# Altium schematic symbol library IC-MicroChip.SchLib: 1 symbol
Pins are listed as number, name and electrical type; pins without a type are passive.

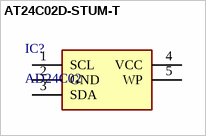
[diagram p0: symbol AT24C02D-STUM-T]

## AT24C02D-STUM-T
designator IC?, comment AD24C02
EEPROM 芯片 / 接口类型 I2C / 存储容量 2Kbit; Manufacturer_Name: IDCHIP(英锐芯); Manufacturer_Name_1: Microchip; Manufacturer_Part_Number_1: AT24C02D-STUM-T; Manufacturer_Part_Number: AD24C02; LCSC: C5125083Microchip
footprint SOT23-5 (SOT23, 5-Leads, Body 2.90x2.80mm, Pitch 0.95mm, IPC Medium Density)
pins: 1 SCL, 2 GND, 3 SDA, 4 VCC, 5 WP